# Altium schematic symbol library STM32H743II.SchLib: 2 symbols
Pins are listed as number, name and electrical type; pins without a type are passive.

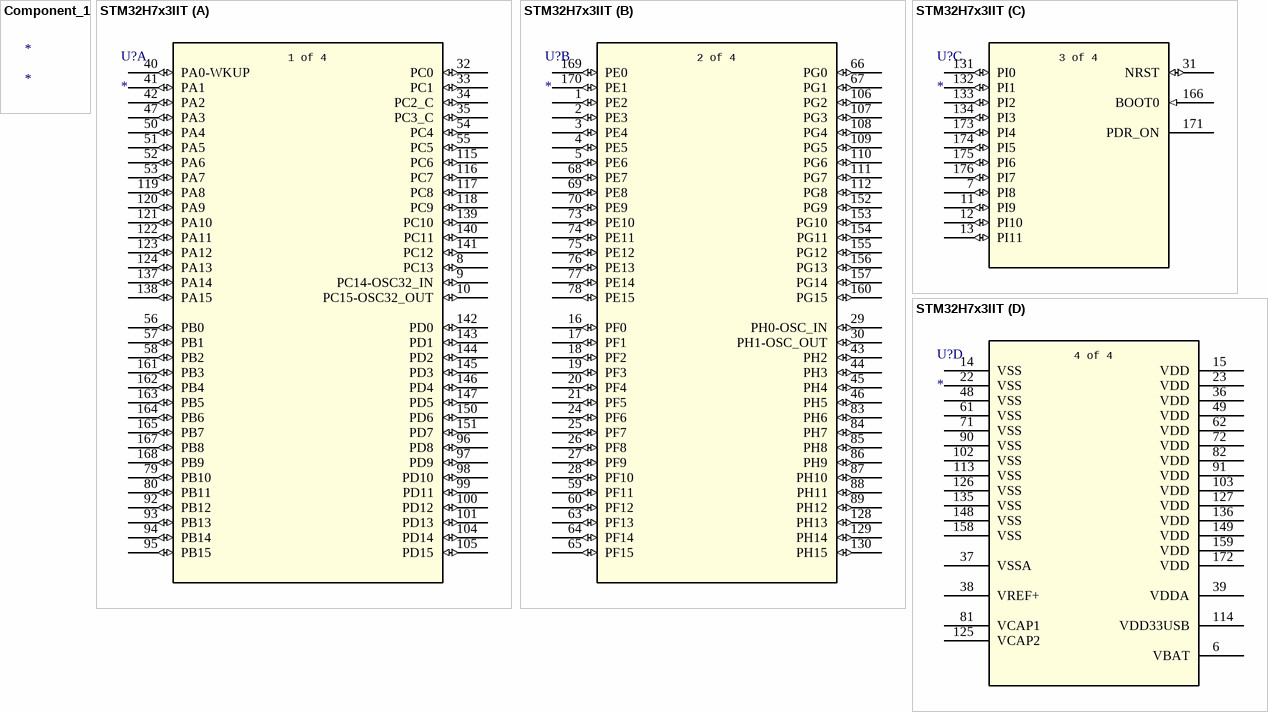
[diagram p0: symbols Component_1 to STM32H7x3IIT]

## Component_1
designator *

## STM32H7x3IIT
designator U?
Imported; Manufacturer_Part_Number: stm32h7x3iit; Vendor: STMicroelectronics; Copyright: Copyright (C) 2016 Accelerated Designs. All rights reserved; Value: Value; Type: Type; RefDes: RefDes
footprint LQFP176_24x24mm
part A pins: 8 PC13 (io), 9 PC14-OSC32_IN (io), 10 PC15-OSC32_OUT (io), 32 PC0 (io), 33 PC1 (io), 34 PC2_C (io), 35 PC3_C (io), 40 PA0-WKUP (io), 41 PA1 (io), 42 PA2 (io), 47 PA3 (io), 50 PA4 (io), 51 PA5 (io), 52 PA6 (io), 53 PA7 (io), 54 PC4 (io), 55 PC5 (io), 56 PB0 (io), 57 PB1 (io), 58 PB2 (io), 79 PB10 (io), 80 PB11 (io), 92 PB12 (io), 93 PB13 (io), 94 PB14 (io), 95 PB15 (io), 96 PD8 (io), 97 PD9 (io), 98 PD10 (io), 99 PD11 (io), 100 PD12 (io), 101 PD13 (io), 104 PD14 (io), 105 PD15 (io), 115 PC6 (io), 116 PC7 (io), 117 PC8 (io), 118 PC9 (io), 119 PA8 (io), 120 PA9 (io), 121 PA10 (io), 122 PA11 (io), 123 PA12 (io), 124 PA13 (io), 137 PA14 (io), 138 PA15 (io), 139 PC10 (io), 140 PC11 (io), 141 PC12 (io), 142 PD0 (io), 143 PD1 (io), 144 PD2 (io), 145 PD3 (io), 146 PD4 (io), 147 PD5 (io), 150 PD6 (io), 151 PD7 (io), 161 PB3 (io), 162 PB4 (io), 163 PB5 (io), 164 PB6 (io), 165 PB7 (io), 167 PB8 (io), 168 PB9 (io)
part B pins: 1 PE2 (io), 2 PE3 (io), 3 PE4 (io), 4 PE5 (io), 5 PE6 (io), 16 PF0 (io), 17 PF1 (io), 18 PF2 (io), 19 PF3 (io), 20 PF4 (io), 21 PF5 (io), 24 PF6 (io), 25 PF7 (io), 26 PF8 (io), 27 PF9 (io), 28 PF10 (io), 29 PH0-OSC_IN (io), 30 PH1-OSC_OUT (io), 43 PH2 (io), 44 PH3 (io), 45 PH4 (io), 46 PH5 (io), 59 PF11 (io), 60 PF12 (io), 63 PF13 (io), 64 PF14 (io), 65 PF15 (io), 66 PG0 (io), 67 PG1 (io), 68 PE7 (io), 69 PE8 (io), 70 PE9 (io), 73 PE10 (io), 74 PE11 (io), 75 PE12 (io), 76 PE13 (io), 77 PE14 (io), 78 PE15 (io), 83 PH6 (io), 84 PH7 (io), 85 PH8 (io), 86 PH9 (io), 87 PH10 (io), 88 PH11 (io), 89 PH12 (io), 106 PG2 (io), 107 PG3 (io), 108 PG4 (io), 109 PG5 (io), 110 PG6 (io), 111 PG7 (io), 112 PG8 (io), 128 PH13 (io), 129 PH14 (io), 130 PH15 (io), 152 PG9 (io), 153 PG10 (io), 154 PG11 (io), 155 PG12 (io), 156 PG13 (io), 157 PG14 (io), 160 PG15 (io), 169 PE0 (io), 170 PE1 (io)
part C pins: 7 PI8 (io), 11 PI9 (io), 12 PI10 (io), 13 PI11 (io), 31 NRST (io), 131 PI0 (io), 132 PI1 (io), 133 PI2 (io), 134 PI3 (io), 166 BOOT0 (in), 171 PDR_ON, 173 PI4 (io), 174 PI5 (io), 175 PI6 (io), 176 PI7 (io)
part D pins: 6 VBAT (power), 14 VSS (power), 15 VDD (power), 22 VSS (power), 23 VDD (power), 36 VDD (power), 37 VSSA (power), 38 VREF+ (power), 39 VDDA (power), 48 VSS (power), 49 VDD (power), 61 VSS (power), 62 VDD (power), 71 VSS (power), 72 VDD (power), 81 VCAP1 (power), 82 VDD (power), 90 VSS (power), 91 VDD (power), 102 VSS (power), 103 VDD (power), 113 VSS (power), 114 VDD33USB (power), 125 VCAP2 (power), 126 VSS (power), 127 VDD (power), 135 VSS (power), 136 VDD (power), 148 VSS (power), 149 VDD (power), 158 VSS (power), 159 VDD (power), 172 VDD (power)
part A text: 1 of 4
part B text: 2 of 4
part C text: 3 of 4
part D text: 4 of 4